# Altium footprint library PCB - LED - LED 0402_1005 YELLOW.PCBLIB: 1 footprints
Each footprint in its own frame and in the unit in brackets; x right, y up, seen from the top. Pads: shape width x height; smd on the part's side, far side on the other; paste and mask are expansions set on the pad; w line width, h text height; cw(c..) or ccw(c..) is an arc to the next point about the centre after c.
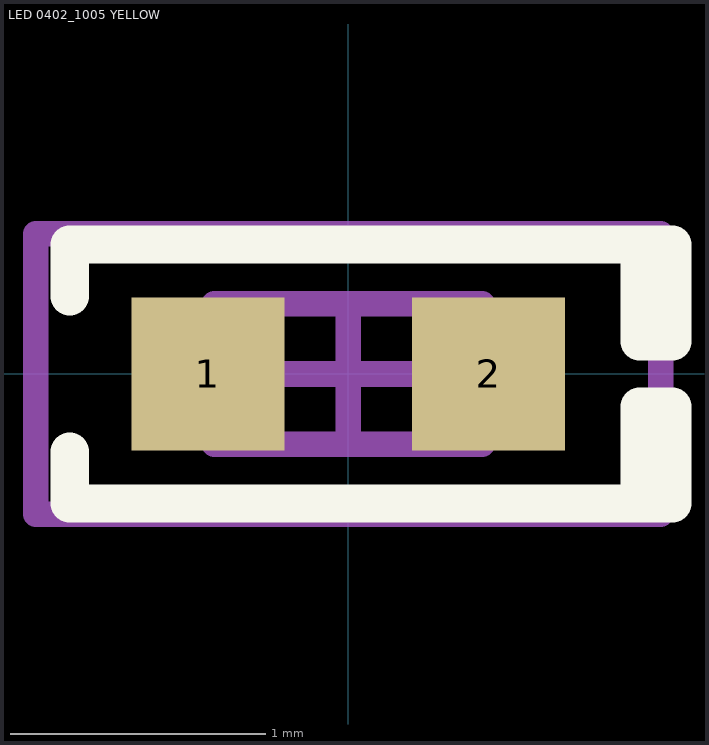
[diagram p0: the footprint, top view; thin cyan lines are the x and y axes]

## LED 0402_1005 YELLOW [mm] "Chip Diode, 2-Leads, Body 1.00x0.50mm, IPC Medium Density"
height 0.25
pads (2):
  rect 0.6x0.6 smd: 1(-0.55,0) 2(0.55,0)
Top Overlay:
  lines w0.15: -1.092,-0.305 -1.092,-0.508 1.143,-0.508 ; -1.092,0.305 -1.092,0.508 1.143,0.508 ; 1.143,-0.508 1.27,-0.508 1.27,-0.127 1.143,-0.127 1.143,-0.508 ; 1.143,0.508 1.27,0.508 1.27,0.127 1.143,0.127 1.143,0.508
Mechanical 13:
  lines w0.1: -0.525,-0.275 -0.525,0.275 0.525,0.275 0.525,-0.275 -0.525,-0.275
Mechanical 15:
  lines w0.1: -0.275,0 0.275,0 ; 0,-0.275 0,0.275 ; -1.225,-0.55 -1.225,0.55 1.225,0.55 1.225,-0.55 -1.225,-0.55
3D body "LED 0402 Lens YELLOW.STEP": height 0.21, standoff 0.08, extent -0.35,-0.25 0.35,0.25
3D body "LED 0402 Base YELLOW.STEP": height 0.1, standoff 0, extent -0.5,-0.25 0.5,0.25